# Altium footprint library SMF3.3A.PcbLib: 1 footprints
Each footprint in its own frame and in the unit in brackets; x right, y up, seen from the top. Pads: shape width x height; smd on the part's side, far side on the other; paste and mask are expansions set on the pad; w line width, h text height; cw(c..) or ccw(c..) is an arc to the next point about the centre after c.
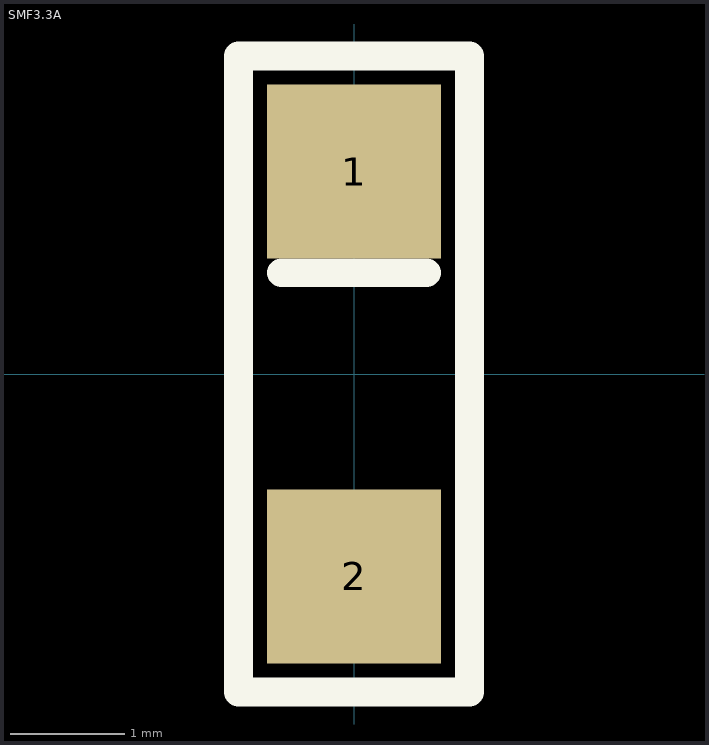
[diagram p0: the footprint, top view; thin cyan lines are the x and y axes]

## SMF3.3A [mil]
pads (2):
  rect 60x60 smd: 1(0,70) 2(0,-70)
Top Overlay:
  lines w10: -25,35 25,35 ; -40,-110 40,-110 40,110 -40,110 -40,-110
3D body "SMF3.3.stp": height 47.52, standoff 1.06, extent -39.37,-76.77 39.37,76.77